# EAGLE library part SW_DPDT_EG1271 (library wheat)
Switch, DPDT slige, EG1271
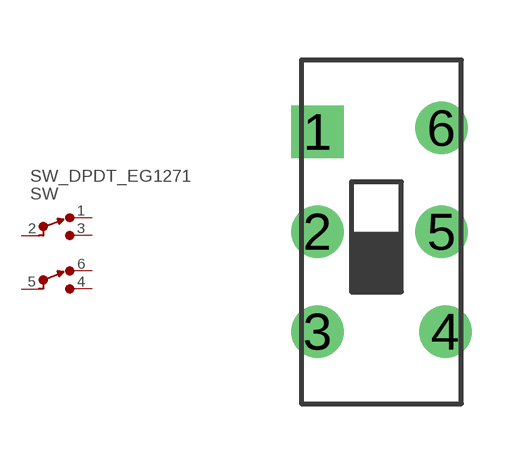
[diagram p48: symbol with the pads of SW_DPDT_SLIDE; footprint SW_DPDT_SLIDE]

Designator prefix SW

## SW_DPDT_EG1271  [SW_DPDT_SLIDE]
1  NC1  pas
2  C1  pas
3  NO1  pas
4  NO2  pas
5  C2  pas
6  NC2  pas

## Footprint SW_DPDT_SLIDE (pad centres in mm)
Slide switch, DPDT, mini PCB
drill 0.813 square: 1 -1.6,2.5
drill 0.813: 2 -1.6,0; 3 -1.6,-2.5; 4 1.6,-2.5; 5 1.5,0; 6 1.5,2.6